# EAGLE library part ICM-42688-P-MODULE-PINHEADER (library ICM-42688-P-Module)
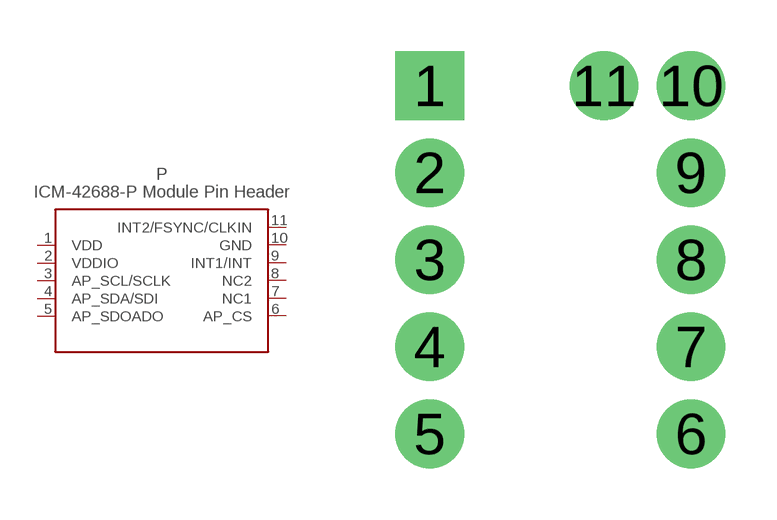
[diagram p0: symbol with the pads of FOR-MODULE-MAKING; footprint FOR-MODULE-MAKING]

Designator prefix P

## ICM-42688-P-MODULE-PINHEADER  [FOR-MODULE-MAKING]
1  VDD
2  VDDIO
3  AP_SCL/SCLK
4  AP_SDA/SDI
5  AP_SDOADO
6  AP_CS
7  NC1  nc
8  NC2  nc
9  INT1/INT
10  GND
11  INT2/FSYNC/CLKIN

## Footprint FOR-MODULE-MAKING (pad centres in mm)
drill 1 pad 2 square: 1 -3.81,5.08
drill 1 pad 2: 2 -3.81,2.54; 3 -3.81,0; 4 -3.81,-2.54; 5 -3.81,-5.08; 6 3.81,-5.08; 7 3.81,-2.54; 8 3.81,0; 9 3.81,2.54; 10 3.81,5.08; 11 1.27,5.08